# EAGLE library part CC6-2412DF-E (library dc-dc-converter)
DC/DC CONVERTOR 6W DUAL 24V +-12V PCB TDK-Lambda CC-E Series
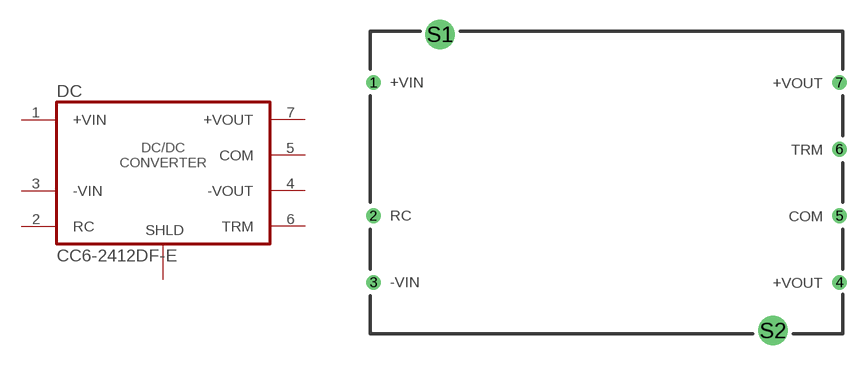
[diagram p9: symbol with the pads of CC10-F-E; footprint CC10-F-E]

Designator prefix DC

## CC6-2412DF-E  [CC10-F-E]
1  +VIN  pas
2  RC  pas
3  -VIN  pas
4  -VOUT  pas
5  COM  pas
6  TRM  pas
7  +VOUT  pas
S1  SHLD  pas
S2  SHLD  pas

## Footprint CC10-F-E (pad centres in mm)
DC-DC CONVERTOR CC-E Series, TDK-Lambda
drill 0.61: 1 -17.78,7.62; 2 -17.78,-2.54; 3 -17.78,-7.62; 4 17.78,-7.62; 5 17.78,-2.54; 6 17.78,2.54; 7 17.78,7.62
drill 1.5: S1 -12.7,11.3; S2 12.7,-11.3